# EAGLE library part SJ-3566AN (library SJ-3566AN)
Audio Jack Connector 3.5 mm Right-Angle Stereo Jack w/ SPDT Switch Check availability <https://pricing.snapeda.com/parts/SJ-3566AN/Same%20Sky/view-part?ref=eda>
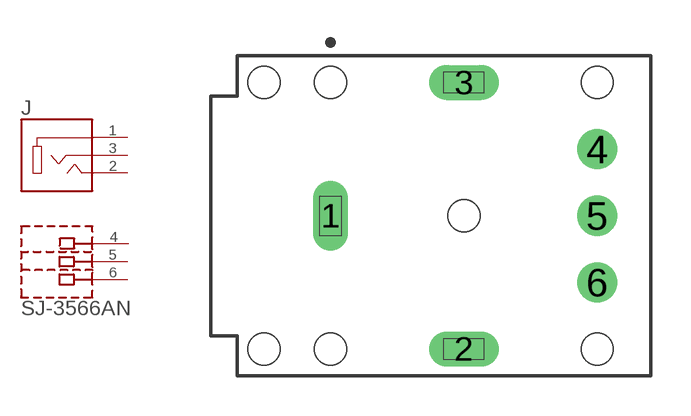
[diagram p0: symbol with the pads of CUI_SJ-3566AN; footprint CUI_SJ-3566AN]

Designator prefix J

## SJ-3566AN (Availability: In Stock; Check_prices: https://www.snapeda.com/parts/SJ-3566AN/Same+Sky/view-part/?ref=eda; Description: 3.5 mm Right-Angle, SPDT Switch, Stereo Audio Jack Connector; MF: Same Sky; MP: SJ-3566AN; Package: None; Price: None; SnapEDA_Link: https://www.snapeda.com/parts/SJ-3566AN/Same+Sky/view-part/?ref=snap)  [CUI_SJ-3566AN]
1  1  pas
2  2  pas
3  3  pas
4  4  pas
5  5  pas
6  6  pas

## Footprint CUI_SJ-3566AN (pad centres in mm)
drill 0.8 long: 1 -5,0; 2 0,-5; 3 0,5
drill 1: 4 5,2.5; 5 5,0; 6 5,-2.5
hole 1.2 at 5,5
hole 1.2 at 5,-5
hole 1.2 at 0,0
hole 1.2 at -5,5
hole 1.2 at -7.5,5
hole 1.2 at -5,-5
hole 1.2 at -7.5,-5